# Altium integrated library Transistor.IntLib: 3457 symbols (part 31 of 78)
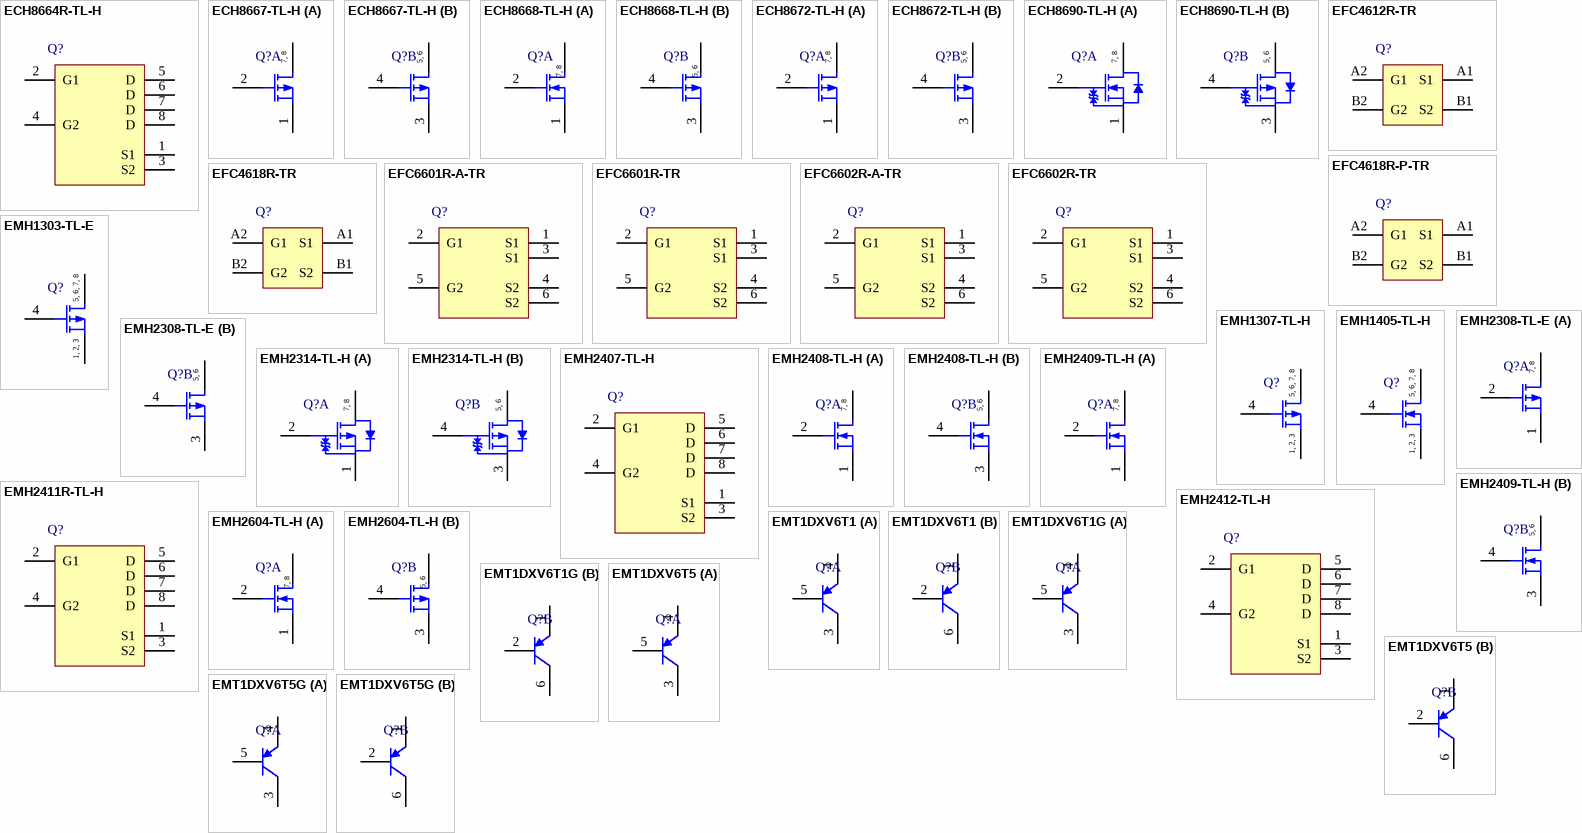
[diagram p124: symbols ECH8664R-TL-H to EMT1DXV6T5G]

## EFC6602R-TR
designator Q?
N-Channel Power MOSFET, 12 V, 18 A, 5.9 mOhm, 6-Pin EFCP, Pb-Free, Tape and Reel; Manufacturer: On Semiconductor; PartNumber: EFC6602R-TR; Channel Polarity: N Channel; Configuration: Dual; VGS Max (V): 12; VGS(th) Max (V): 1.3; PackageVersion: Rev. O, 05/2012; PackageReference: EFCP2718-6CE-020-6-567FK; PackageDescription: 6-Ball Wafer Level Chip Scale Package, Body 2.7 x 1.81 mm, Pitch 0.65 mm; Supplier 1: Newark; Supplier Part Number 1: 45W8151; Supplier 2: Mouser; Supplier Part Number 2: 863-EFC6602R-TR; Package Type: WLCSP-6; Packing: Tape and Reel; RoHS: Pb-Free; Mounting Technology: Surface Mount; ComponentLink1Description: Manufacturer URL; ComponentLink1URL: http://www.onsemi.com/; ComponentLink2Description: Datasheet; ComponentLink2URL: http://www.onsemi.com/pub_link/Collateral/ENA2152-D.PDF; ComponentLink3Description: Package Specification; ComponentLink3URL: http://www.onsemi.com/pub_link/Collateral/ENA2152-D.PDF
footprint ONSC-EFCP2718-6CE-020-6-567FK (BGA, 6-Balls, Body 2.7x1.81mm, Pitch 0.65mm)
pins: 1 S1, 2 G1, 3 S1, 4 S2, 5 G2, 6 S2

## EMH1303-TL-E
designator Q?
P-Channel Power MOSFET, -12 V, -7 A, 23 mOhm, 8-Pin EMH, Pb-Free, Tape and Reel; Manufacturer: On Semiconductor; PartNumber: EMH1303-TL-E; Channel Polarity: P Channel; Ciss Typ (pF): 1100; Configuration: Single; Coss Typ (pF): 350; Crss Typ (pF): 265; ID Max (A): 7; PD Max (W): 1.5; V(BR)DSS Min (V): 12; VGS Max (V): 10; VGS(th) Max (V): 1.2; PackageReference: EMH-8; PackageDescription: 8-Pin SOT23, Body 2 x 1.7 mm, Pitch 0.5 mm; Supplier 1: Digi-Key; Supplier Part Number 1: EMH1303-TL-E-ND; Supplier 2: Mouser; Supplier Part Number 2: 863-EMH1303-TL-E; Package Type: SOT-383FL / EMH-8; Packing: Tape and Reel; RoHS: Pb-Free; Mounting Technology: Surface Mount; ComponentLink1Description: Manufacturer URL; ComponentLink1URL: http://www.onsemi.com/; ComponentLink2Description: Datasheet; ComponentLink2URL: http://www.onsemi.com/pub_link/Collateral/EMH1303-D.PDF; ComponentLink3Description: Package Specification; ComponentLink3URL: http://www.onsemi.com/pub_link/Collateral/EMH1303-D.PDF
footprint ONSC-EMH-8_V (SOT23, 8-Leads, Body 2x1.7mm, Pitch 0.5mm)
pins: 1 S, 2 S, 3 S, 4 G, 5 D, 6 D, 7 D, 8 D
text: 5, 6, 7, 8; 1, 2, 3

## EMH1307-TL-H
designator Q?
P-Channel Power MOSFET, -20 V, -6.5 A, 26 mOhm, 8-Pin EMH, Pb-Free, Tape and Reel; Manufacturer: On Semiconductor; PartNumber: EMH1307-TL-H; Channel Polarity: P Channel; Ciss Typ (pF): 1100; Configuration: Single; Coss Typ (pF): 210; Crss Typ (pF): 160; ID Max (A): 6.5; PD Max (W): 1.5; V(BR)DSS Min (V): 20; VGS Max (V): 10; VGS(th) Max (V): 1.3; PackageReference: EMH-8; PackageDescription: 8-Pin SOT23, Body 2 x 1.7 mm, Pitch 0.5 mm; Supplier 1: Digi-Key; Supplier Part Number 1: EMH1307-TL-H-ND; Supplier 2: Mouser; Supplier Part Number 2: 863-EMH1307-TL-H; Package Type: SOT-383FL / EMH-8; Packing: Tape and Reel; RoHS: Pb-Free; Mounting Technology: Surface Mount; ComponentLink1Description: Manufacturer URL; ComponentLink1URL: http://www.onsemi.com/; ComponentLink2Description: Datasheet; ComponentLink2URL: http://www.onsemi.com/pub_link/Collateral/EMH1307-D.PDF; ComponentLink3Description: Package Specification; ComponentLink3URL: http://www.onsemi.com/pub_link/Collateral/EMH1303-D.PDF
footprint ONSC-EMH-8_V (SOT23, 8-Leads, Body 2x1.7mm, Pitch 0.5mm)
pins: 1 S, 2 S, 3 S, 4 G, 5 D, 6 D, 7 D, 8 D
text: 5, 6, 7, 8; 1, 2, 3

## EMH1405-TL-H
designator Q?
N-Channel Power MOSFET, 30 V, 8.5 A, 19 mOhm, 8-Pin EMH, Pb-Free, Tape and Reel; Manufacturer: On Semiconductor; PartNumber: EMH1405-TL-H; Channel Polarity: N Channel; Ciss Typ (pF): 820; Configuration: Single; Coss Typ (pF): 130; Crss Typ (pF): 90; ID Max (A): 8.5; PD Max (W): 1.5; V(BR)DSS Min (V): 30; VGS Max (V): 20; VGS(th) Max (V): 2.6; PackageReference: EMH-8; PackageDescription: 8-Pin SOT23, Body 2 x 1.7 mm, Pitch 0.5 mm; Supplier 1: Digi-Key; Supplier Part Number 1: EMH1405-TL-H-ND; Supplier 2: Mouser; Supplier Part Number 2: 863-EMH1405-TL-H; Package Type: SOT-383FL / EMH-8; Packing: Tape and Reel; RoHS: Pb-Free; Mounting Technology: Surface Mount; ComponentLink1Description: Manufacturer URL; ComponentLink1URL: http://www.onsemi.com/; ComponentLink2Description: Datasheet; ComponentLink2URL: http://www.onsemi.com/pub_link/Collateral/EMH1405-D.PDF; ComponentLink3Description: Package Specification; ComponentLink3URL: http://www.onsemi.com/pub_link/Collateral/EMH1303-D.PDF
footprint ONSC-EMH-8_V (SOT23, 8-Leads, Body 2x1.7mm, Pitch 0.5mm)
pins: 1 S, 2 S, 3 S, 4 G, 5 D, 6 D, 7 D, 8 D
text: 5, 6, 7, 8; 1, 2, 3

## EMH2308-TL-E
designator Q?
P-Channel Power MOSFET, -20 V, -3 A, 85 mOhm, 8-Pin EMH, Pb-Free, Tape and Reel; Manufacturer: On Semiconductor; PartNumber: EMH2308-TL-E; Channel Polarity: P Channel; Ciss Typ (pF): 320; Configuration: Dual; Coss Typ (pF): 66; Crss Typ (pF): 50; ID Max (A): 3; PD Max (W): 1; V(BR)DSS Min (V): 20; VGS Max (V): 10; VGS(th) Max (V): 1.3; PackageReference: EMH-8; PackageDescription: 8-Pin SOT23, Body 2 x 1.7 mm, Pitch 0.5 mm; Supplier 1: Digi-Key; Supplier Part Number 1: EMH2308-TL-E-ND; Supplier 2: Mouser; Supplier Part Number 2: 863-EMH2308-TL-E; Package Type: SOT-383FL / EMH-8; Packing: Tape and Reel; RoHS: Pb-Free; Mounting Technology: Surface Mount; ComponentLink1Description: Manufacturer URL; ComponentLink1URL: http://www.onsemi.com/; ComponentLink2Description: Datasheet; ComponentLink2URL: http://www.onsemi.com/pub_link/Collateral/EMH2308-D.PDF; ComponentLink3Description: Package Specification; ComponentLink3URL: http://www.onsemi.com/pub_link/Collateral/EMH1303-D.PDF
footprint ONSC-EMH-8_V (SOT23, 8-Leads, Body 2x1.7mm, Pitch 0.5mm)
part A pins: 1 S1, 2 G1, 7 D1, 8 D1
part B pins: 3 S2, 4 G2, 5 D2, 6 D2
part A text: 7, 8
part B text: 5, 6

## EMH2314-TL-H
designator Q?
P-Channel Power MOSFET, -12 V, -5 A, 37 mOhm, 8-Pin EMH, Pb-Free, Tape and Reel; Manufacturer: On Semiconductor; PartNumber: EMH2314-TL-H; Channel Polarity: P Channel; Ciss Typ (pF): 1300; Configuration: Dual; Coss Typ (pF): 158; Crss Typ (pF): 143; ID Max (A): 5; PD Max (W): 1; V(BR)DSS Min (V): 12; VGS Max (V): 10; VGS(th) Max (V): 1.3; PackageReference: EMH-8; PackageDescription: 8-Pin SOT23, Body 2 x 1.7 mm, Pitch 0.5 mm; Supplier 1: Digi-Key; Supplier Part Number 1: EMH2314-TL-H-ND; Supplier 2: Mouser; Supplier Part Number 2: 863-EMH2314-TL-H; Package Type: SOT-383FL / EMH-8; Packing: Tape and Reel; RoHS: Pb-Free; Mounting Technology: Surface Mount; ComponentLink1Description: Manufacturer URL; ComponentLink1URL: http://www.onsemi.com/; ComponentLink2Description: Datasheet; ComponentLink2URL: http://www.onsemi.com/pub_link/Collateral/EN8759-D.PDF; ComponentLink3Description: Package Specification; ComponentLink3URL: http://www.onsemi.com/pub_link/Collateral/EMH1303-D.PDF
footprint ONSC-EMH-8_V (SOT23, 8-Leads, Body 2x1.7mm, Pitch 0.5mm)
part A pins: 1 S1, 2 G1, 7 D1, 8 D1
part B pins: 3 S2, 4 G2, 5 D2, 6 D2
part A text: 7, 8
part B text: 5, 6

## EMH2407-TL-H
designator Q?
N-Channel Power MOSFET, 20 V, 6 A, 25 mOhm, 8-Pin EMH, Pb-Free, Tape and Reel; Manufacturer: On Semiconductor; PartNumber: EMH2407-TL-H; Channel Polarity: N Channel; Ciss Typ (pF): 580; Configuration: Dual; Coss Typ (pF): 95; Crss Typ (pF): 75; ID Max (A): 6; PD Max (W): 1.3; V(BR)DSS Min (V): 20; VGS Max (V): 12; PackageReference: EMH-8; PackageDescription: 8-Pin SOT23, Body 2 x 1.7 mm, Pitch 0.5 mm; Supplier 1: Digi-Key; Supplier Part Number 1: EMH2407-TL-H-ND; Supplier 2: Mouser; Supplier Part Number 2: 863-EMH2407-TL-H; Package Type: SOT-383FL / EMH-8; Packing: Tape and Reel; RoHS: Pb-Free; VGS(th) Max (V): 1.3; Mounting Technology: Surface Mount; ComponentLink1Description: Manufacturer URL; ComponentLink1URL: http://www.onsemi.com/; ComponentLink2Description: Datasheet; ComponentLink2URL: http://www.onsemi.com/pub_link/Collateral/ENA1141-D.PDF; ComponentLink3Description: Package Specification; ComponentLink3URL: http://www.onsemi.com/pub_link/Collateral/EMH1303-D.PDF
footprint ONSC-EMH-8_V (SOT23, 8-Leads, Body 2x1.7mm, Pitch 0.5mm)
pins: 1 S1, 2 G1, 3 S2, 4 G2, 5 D, 6 D, 7 D, 8 D

## EMH2408-TL-H
designator Q?
N-Channel Power MOSFET, 20 V, 4 A, 45 mOhm, 8-Pin EMH, Pb-Free, Tape and Reel; Manufacturer: On Semiconductor; PartNumber: EMH2408-TL-H; Channel Polarity: N Channel; Ciss Typ (pF): 345; Configuration: Dual; Coss Typ (pF): 67; Crss Typ (pF): 52; ID Max (A): 4; PD Max (W): 1; V(BR)DSS Min (V): 20; VGS Max (V): 12; VGS(th) Max (V): 1.3; PackageReference: EMH-8; PackageDescription: 8-Pin SOT23, Body 2 x 1.7 mm, Pitch 0.5 mm; Supplier 1: Digi-Key; Supplier Part Number 1: EMH2408-TL-H-ND; Supplier 2: Mouser; Supplier Part Number 2: 863-EMH2408-TL-H; Package Type: SOT-383FL / EMH-8; Packing: Tape and Reel; RoHS: Pb-Free; Mounting Technology: Surface Mount; ComponentLink1Description: Manufacturer URL; ComponentLink1URL: http://www.onsemi.com/; ComponentLink2Description: Datasheet; ComponentLink2URL: http://www.onsemi.com/pub_link/Collateral/EMH2408-D.PDF; ComponentLink3Description: Package Specification; ComponentLink3URL: http://www.onsemi.com/pub_link/Collateral/EMH1303-D.PDF
footprint ONSC-EMH-8_V (SOT23, 8-Leads, Body 2x1.7mm, Pitch 0.5mm)
part A pins: 1 S1, 2 G1, 7 D1, 8 D1
part B pins: 3 S2, 4 G2, 5 D2, 6 D2
part A text: 7, 8
part B text: 5, 6

## EMH2409-TL-H
designator Q?
N-Channel Power MOSFET, 30 V, 4 A, 59 mOhm, 8-Pin EMH, Pb-Free, Tape and Reel; Manufacturer: On Semiconductor; PartNumber: EMH2409-TL-H; Channel Polarity: N Channel; Ciss Typ (pF): 240; Configuration: Dual; Coss Typ (pF): 45; Crss Typ (pF): 30; ID Max (A): 4; PD Max (W): 1; VGS Max (V): 20; VGS(th) Max (V): 2.6; PackageReference: EMH-8; PackageDescription: 8-Pin SOT23, Body 2 x 1.7 mm, Pitch 0.5 mm; Supplier 1: Digi-Key; Supplier Part Number 1: EMH2409-TL-H-ND; Supplier 2: Mouser; Supplier Part Number 2: 863-EMH2409-TL-H; Package Type: SOT-383FL / EMH-8; Packing: Tape and Reel; RoHS: Pb-Free; V(BR)DSS Min (V): 30; Mounting Technology: Surface Mount; ComponentLink1Description: Manufacturer URL; ComponentLink1URL: http://www.onsemi.com/; ComponentLink2Description: Datasheet; ComponentLink2URL: http://www.onsemi.com/pub_link/Collateral/EMH2409-D.PDF; ComponentLink3Description: Package Specification; ComponentLink3URL: http://www.onsemi.com/pub_link/Collateral/EMH1303-D.PDF
footprint ONSC-EMH-8_V (SOT23, 8-Leads, Body 2x1.7mm, Pitch 0.5mm)
part A pins: 1 S1, 2 G1, 7 D1, 8 D1
part B pins: 3 S2, 4 G2, 5 D2, 6 D2
part A text: 7, 8
part B text: 5, 6

## EMH2411R-TL-H
designator Q?
N-Channel Power MOSFET, 30 V, 5 A, 36.5 Ohm, 8-Pin EMH, Pb-Free, Tape and Reel; Manufacturer: On Semiconductor; PartNumber: EMH2411R-TL-H; Channel Polarity: N Channel; Configuration: Dual; ID Max (A): 5; PD Max (W): 1.3; V(BR)DSS Min (V): 30; VGS Max (V): 12; PackageReference: EMH-8; PackageDescription: 8-Pin SOT23, Body 2 x 1.7 mm, Pitch 0.5 mm; Supplier 1: Digi-Key; Supplier Part Number 1: EMH2411R-TL-H-ND; Supplier 2: Mouser; Supplier Part Number 2: 863-EMH2411R-TL-H; Package Type: SOT-383FL / EMH-8; Packing: Tape and Reel; RoHS: Pb-Free; VGS(th) Max (V): 1.3; Mounting Technology: Surface Mount; ComponentLink1Description: Manufacturer URL; ComponentLink1URL: http://www.onsemi.com/; ComponentLink2Description: Datasheet; ComponentLink2URL: http://www.onsemi.com/pub_link/Collateral/ENA1421-D.PDF; ComponentLink3Description: Package Specification; ComponentLink3URL: http://www.onsemi.com/pub_link/Collateral/EMH1303-D.PDF
footprint ONSC-EMH-8_V (SOT23, 8-Leads, Body 2x1.7mm, Pitch 0.5mm)
pins: 1 S1, 2 G1, 3 S2, 4 G2, 5 D, 6 D, 7 D, 8 D

## EMH2412-TL-H
designator Q?
N-Channel Power MOSFET, 24 V, 6 A, 27 mOhm, 8-Pin EMH, Pb-Free, Tape and Reel; Manufacturer: On Semiconductor; PartNumber: EMH2412-TL-H; Channel Polarity: N Channel; Configuration: Dual; ID Max (A): 6; PD Max (W): 1.3; V(BR)DSS Min (V): 24; VGS Max (V): 12; PackageReference: EMH-8; PackageDescription: 8-Pin SOT23, Body 2 x 1.7 mm, Pitch 0.5 mm; Supplier 1: Digi-Key; Supplier Part Number 1: EMH2412-TL-H-ND; Supplier 2: Mouser; Supplier Part Number 2: 863-EMH2412-TL-H; Package Type: SOT-383FL / EMH-8; Packing: Tape and Reel; RoHS: Pb-Free; VGS(th) Max (V): 1.3; Mounting Technology: Surface Mount; ComponentLink1Description: Manufacturer URL; ComponentLink1URL: http://www.onsemi.com/; ComponentLink2Description: Datasheet; ComponentLink2URL: http://www.onsemi.com/pub_link/Collateral/EMH2412-D.PDF; ComponentLink3Description: Package Specification; ComponentLink3URL: http://www.onsemi.com/pub_link/Collateral/EMH1303-D.PDF
footprint ONSC-EMH-8_V (SOT23, 8-Leads, Body 2x1.7mm, Pitch 0.5mm)
pins: 1 S1, 2 G1, 3 S2, 4 G2, 5 D, 6 D, 7 D, 8 D

## EMH2604-TL-H
designator Q?
Power MOSFET, 20 V, 4 A, 45 mOhm, -20 V, -3 A, 85 mOhm, 8-Pin EMH, Pb-Free, Tape and Reel; Manufacturer: On Semiconductor; PartNumber: EMH2604-TL-H; Channel Polarity: Complementary; Configuration: Dual; PD Max (W): 1; V(BR)DSS Min (V): 20; VGS Max (V): 10; VGS(th) Max (V): 1.3; PackageReference: EMH-8; PackageDescription: 8-Pin SOT23, Body 2 x 1.7 mm, Pitch 0.5 mm; Supplier 1: Digi-Key; Supplier Part Number 1: EMH2604-TL-H-ND; Supplier 2: Mouser; Supplier Part Number 2: 863-EMH2604-TL-H; Package Type: SOT-383FL / EMH-8; Packing: Tape and Reel; RoHS: Pb-Free; Mounting Technology: Surface Mount; ComponentLink1Description: Manufacturer URL; ComponentLink1URL: http://www.onsemi.com/; ComponentLink2Description: Datasheet; ComponentLink2URL: http://www.onsemi.com/pub_link/Collateral/EMH2604-D.PDF; ComponentLink3Description: Package Specification; ComponentLink3URL: http://www.onsemi.com/pub_link/Collateral/EMH1303-D.PDF
footprint ONSC-EMH-8_V (SOT23, 8-Leads, Body 2x1.7mm, Pitch 0.5mm)
part A pins: 1 S1, 2 G1, 7 D1, 8 D1
part B pins: 3 S2, 4 G2, 5 D2, 6 D2
part A text: 7, 8
part B text: 5, 6

## EMT1DXV6T1
designator Q?
Dual General Purpose Transistors, PNP, 6-Pin SOT-563, Pb-Free, Tape and Reel; Manufacturer: On Semiconductor; PartNumber: EMT1DXV6T1; IC Continuous (A): -0.1; Polarity: Dual PNP; DatasheetVersion: Rev. 1; PackageVersion: Rev. F, 04/2005; PackageReference: SOT-563-6-463A-01; PackageDescription: 6-Pin Small Outline Transistor, Body 1.6 x 1.2 mm, Pitch 0.5 mm; Supplier 1: Digi-Key; Supplier Part Number 1: EMT1DXV6T1-ND; Supplier 2: Mouser; Supplier Part Number 2: 863-EMT1DXV6T1; Packing: Tape and Reel; RoHS: TRUE; Mounting Technology: Surface Mount; ComponentLink1Description: Manufacturer URL; ComponentLink1URL: http://www.onsemi.com/; ComponentLink2Description: Datasheet; ComponentLink2URL: http://www.onsemi.com/pub_link/Collateral/EMT1DXV6T1-D.PDF; ComponentLink3Description: Package Specification; ComponentLink3URL: http://www.onsemi.cn/pub_link/Collateral/463A-01.PDF
footprint ONSC-SOT-563-6-463A-01_V (SOT23, 6-Leads, Body 1.6x1.2mm, Pitch 0.5mm)
part A pins: 3 C, 4 E, 5 B
part B pins: 1 E, 2 B, 6 C

## EMT1DXV6T1G
designator Q?
Dual General Purpose Transistors, PNP, 6-Pin SOT-563, Pb-Free, Tape and Reel; Manufacturer: On Semiconductor; PartNumber: EMT1DXV6T1G; IC Continuous (A): -0.1; Polarity: Dual PNP; DatasheetVersion: Rev. 1; PackageVersion: Rev. F, 04/2005; PackageReference: SOT-563-6-463A-01; PackageDescription: 6-Pin Small Outline Transistor, Body 1.6 x 1.2 mm, Pitch 0.5 mm; Supplier 1: Digi-Key; Supplier Part Number 1: EMT1DXV6T1G-ND; Supplier 2: Newark; Supplier Part Number 2: 41K9774; Supplier 3: Mouser; Supplier Part Number 3: 863-EMT1DXV6T1G; Packing: Tape and Reel; RoHS: TRUE; Mounting Technology: Surface Mount; ComponentLink1Description: Manufacturer URL; ComponentLink1URL: http://www.onsemi.com/; ComponentLink2Description: Datasheet; ComponentLink2URL: http://www.onsemi.com/pub_link/Collateral/EMT1DXV6T1-D.PDF; ComponentLink3Description: Package Specification; ComponentLink3URL: http://www.onsemi.cn/pub_link/Collateral/463A-01.PDF
footprint ONSC-SOT-563-6-463A-01_V (SOT23, 6-Leads, Body 1.6x1.2mm, Pitch 0.5mm)
part A pins: 3 C, 4 E, 5 B
part B pins: 1 E, 2 B, 6 C

## EMT1DXV6T5
designator Q?
Dual General Purpose Transistors, PNP, 6-Pin SOT-563, Pb-Free, Tape and Reel; Manufacturer: On Semiconductor; PartNumber: EMT1DXV6T5; IC Continuous (A): -0.1; Polarity: Dual PNP; DatasheetVersion: Rev. 1; PackageVersion: Rev. F, 04/2005; PackageReference: SOT-563-6-463A-01; PackageDescription: 6-Pin Small Outline Transistor, Body 1.6 x 1.2 mm, Pitch 0.5 mm; Supplier 1: Digi-Key; Supplier Part Number 1: EMT1DXV6T5-ND; Supplier 2: Mouser; Supplier Part Number 2: 863-EMT1DXV6T5; Packing: Tape and Reel; RoHS: TRUE; Mounting Technology: Surface Mount; ComponentLink1Description: Manufacturer URL; ComponentLink1URL: http://www.onsemi.com/; ComponentLink2Description: Datasheet; ComponentLink2URL: http://www.onsemi.com/pub_link/Collateral/EMT1DXV6T1-D.PDF; ComponentLink3Description: Package Specification; ComponentLink3URL: http://www.onsemi.cn/pub_link/Collateral/463A-01.PDF
footprint ONSC-SOT-563-6-463A-01_V (SOT23, 6-Leads, Body 1.6x1.2mm, Pitch 0.5mm)
part A pins: 3 C, 4 E, 5 B
part B pins: 1 E, 2 B, 6 C

## EMT1DXV6T5G
designator Q?
Dual General Purpose Transistors, PNP, 6-Pin SOT-563, Pb-Free, Tape and Reel; Manufacturer: On Semiconductor; PartNumber: EMT1DXV6T5G; IC Continuous (A): -0.1; Polarity: Dual PNP; DatasheetVersion: Rev. 1; PackageVersion: Rev. F, 04/2005; PackageReference: SOT-563-6-463A-01; PackageDescription: 6-Pin Small Outline Transistor, Body 1.6 x 1.2 mm, Pitch 0.5 mm; Supplier 1: Digi-Key; Supplier Part Number 1: EMT1DXV6T5G-ND; Supplier 2: Mouser; Supplier Part Number 2: 863-EMT1DXV6T5G; Packing: Tape and Reel; RoHS: TRUE; Mounting Technology: Surface Mount; ComponentLink1Description: Manufacturer URL; ComponentLink1URL: http://www.onsemi.com/; ComponentLink2Description: Datasheet; ComponentLink2URL: http://www.onsemi.com/pub_link/Collateral/EMT1DXV6T1-D.PDF; ComponentLink3Description: Package Specification; ComponentLink3URL: http://www.onsemi.cn/pub_link/Collateral/463A-01.PDF
footprint ONSC-SOT-563-6-463A-01_V (SOT23, 6-Leads, Body 1.6x1.2mm, Pitch 0.5mm)
part A pins: 3 C, 4 E, 5 B
part B pins: 1 E, 2 B, 6 C

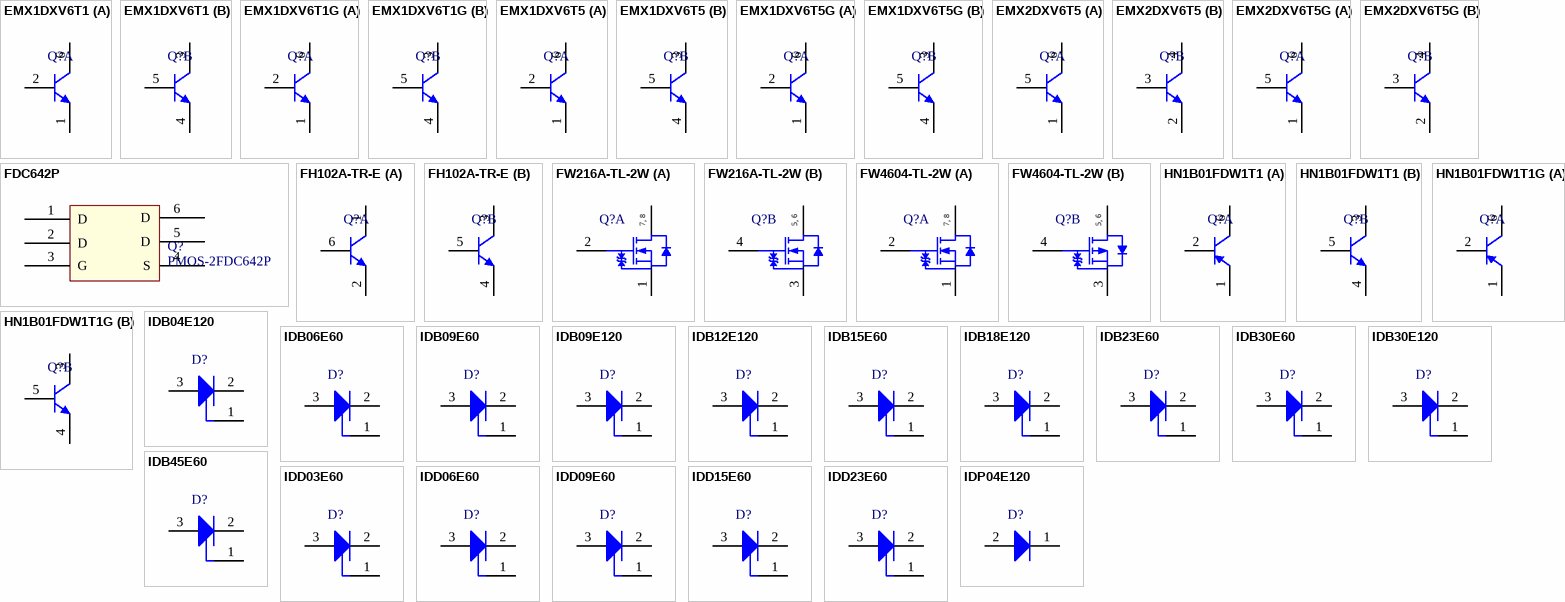
[diagram p36: symbols EMX1DXV6T1 to IDP04E120]

## EMX1DXV6T1
designator Q?
Dual NPN General Purpose Amplifier Transistors, 6-Pin SOT-563, Pb-Free, Tape and Reel; Manufacturer: On Semiconductor; PartNumber: EMX1DXV6T1; IC Continuous (A): 0.1; DatasheetVersion: Rev. 1; PackageVersion: Rev. F, 04/2005; PackageReference: SOT-563-6-463A-01; PackageDescription: 6-Pin Small Outline Transistor, Body 1.6 x 1.2 mm, Pitch 0.5 mm; Supplier 1: Digi-Key; Supplier Part Number 1: EMX1DXV6T1-ND; Supplier 2: Mouser; Supplier Part Number 2: 863-EMX1DXV6T1; Packing: Tape and Reel; Polarity: Dual NPN; RoHS: TRUE; Mounting Technology: Surface Mount; ComponentLink1Description: Manufacturer URL; ComponentLink1URL: http://www.onsemi.com/; ComponentLink2Description: Datasheet; ComponentLink2URL: http://www.onsemi.com/pub_link/Collateral/EMX1DXV6T1-D.PDF; ComponentLink3Description: Package Specification; ComponentLink3URL: http://www.onsemi.cn/pub_link/Collateral/463A-01.PDF
footprint ONSC-SOT-563-6-463A-01_V (SOT23, 6-Leads, Body 1.6x1.2mm, Pitch 0.5mm)
part A pins: 1 E, 2 B, 6 C
part B pins: 3 C, 4 E, 5 B

## EMX1DXV6T1G
designator Q?
Dual NPN General Purpose Amplifier Transistors, 6-Pin SOT-563, Pb-Free, Tape and Reel; Manufacturer: On Semiconductor; PartNumber: EMX1DXV6T1G; IC Continuous (A): 0.1; DatasheetVersion: Rev. 1; PackageVersion: Rev. F, 04/2005; PackageReference: SOT-563-6-463A-01; PackageDescription: 6-Pin Small Outline Transistor, Body 1.6 x 1.2 mm, Pitch 0.5 mm; Supplier 1: Digi-Key; Supplier Part Number 1: EMX1DXV6T1G-ND; Supplier 2: Mouser; Supplier Part Number 2: 863-EMX1DXV6T1G; Packing: Tape and Reel; Polarity: Dual NPN; RoHS: TRUE; Mounting Technology: Surface Mount; ComponentLink1Description: Manufacturer URL; ComponentLink1URL: http://www.onsemi.com/; ComponentLink2Description: Datasheet; ComponentLink2URL: http://www.onsemi.com/pub_link/Collateral/EMX1DXV6T1-D.PDF; ComponentLink3Description: Package Specification; ComponentLink3URL: http://www.onsemi.cn/pub_link/Collateral/463A-01.PDF
footprint ONSC-SOT-563-6-463A-01_V (SOT23, 6-Leads, Body 1.6x1.2mm, Pitch 0.5mm)
part A pins: 1 E, 2 B, 6 C
part B pins: 3 C, 4 E, 5 B

## EMX1DXV6T5
designator Q?
Dual NPN General Purpose Amplifier Transistors, 6-Pin SOT-563, Pb-Free, Tape and Reel; Manufacturer: On Semiconductor; PartNumber: EMX1DXV6T5; IC Continuous (A): 0.1; DatasheetVersion: Rev. 1; PackageVersion: Rev. F, 04/2005; PackageReference: SOT-563-6-463A-01; PackageDescription: 6-Pin Small Outline Transistor, Body 1.6 x 1.2 mm, Pitch 0.5 mm; Supplier 1: Mouser; Supplier Part Number 1: 863-EMX1DXV6T5; Packing: Tape and Reel; Polarity: Dual NPN; RoHS: TRUE; Mounting Technology: Surface Mount; ComponentLink1Description: Manufacturer URL; ComponentLink1URL: http://www.onsemi.com/; ComponentLink2Description: Datasheet; ComponentLink2URL: http://www.onsemi.com/pub_link/Collateral/EMX1DXV6T1-D.PDF; ComponentLink3Description: Package Specification; ComponentLink3URL: http://www.onsemi.cn/pub_link/Collateral/463A-01.PDF
footprint ONSC-SOT-563-6-463A-01_V (SOT23, 6-Leads, Body 1.6x1.2mm, Pitch 0.5mm)
part A pins: 1 E, 2 B, 6 C
part B pins: 3 C, 4 E, 5 B

## EMX1DXV6T5G
designator Q?
Dual NPN General Purpose Amplifier Transistors, 6-Pin SOT-563, Pb-Free, Tape and Reel; Manufacturer: On Semiconductor; PartNumber: EMX1DXV6T5G; IC Continuous (A): 0.1; DatasheetVersion: Rev. 1; PackageVersion: Rev. F, 04/2005; PackageReference: SOT-563-6-463A-01; PackageDescription: 6-Pin Small Outline Transistor, Body 1.6 x 1.2 mm, Pitch 0.5 mm; Supplier 1: Digi-Key; Supplier Part Number 1: EMX1DXV6T5G-ND; Supplier 2: Mouser; Supplier Part Number 2: 863-EMX1DXV6T5G; Packing: Tape and Reel; Polarity: Dual NPN; RoHS: TRUE; Mounting Technology: Surface Mount; ComponentLink1Description: Manufacturer URL; ComponentLink1URL: http://www.onsemi.com/; ComponentLink2Description: Datasheet; ComponentLink2URL: http://www.onsemi.com/pub_link/Collateral/EMX1DXV6T1-D.PDF; ComponentLink3Description: Package Specification; ComponentLink3URL: http://www.onsemi.cn/pub_link/Collateral/463A-01.PDF
footprint ONSC-SOT-563-6-463A-01_V (SOT23, 6-Leads, Body 1.6x1.2mm, Pitch 0.5mm)
part A pins: 1 E, 2 B, 6 C
part B pins: 3 C, 4 E, 5 B

## EMX2DXV6T5
designator Q?
Dual NPN General Purpose Amplifier Transistors, 6-Pin SOT-563, Pb-Free, Tape and Reel; Manufacturer: On Semiconductor; PartNumber: EMX2DXV6T5; IC Continuous (A): 0.1; DatasheetVersion: Rev. 2; PackageVersion: Rev. F, 04/2005; PackageReference: SOT-563-6-463A-01; PackageDescription: 6-Pin Small Outline Transistor, Body 1.6 x 1.2 mm, Pitch 0.5 mm; Supplier 1: Digi-Key; Supplier Part Number 1: EMX2DXV6T5-ND; Supplier 2: Mouser; Supplier Part Number 2: 863-EMX2DXV6T5; Packing: Tape and Reel; Polarity: Dual NPN; RoHS: TRUE; Mounting Technology: Surface Mount; ComponentLink1Description: Manufacturer URL; ComponentLink1URL: http://www.onsemi.com/; ComponentLink2Description: Datasheet; ComponentLink2URL: http://www.onsemi.com/pub_link/Collateral/EMX2DXV6T5-D.PDF; ComponentLink3Description: Package Specification; ComponentLink3URL: http://www.onsemi.cn/pub_link/Collateral/463A-01.PDF
footprint ONSC-SOT-563-6-463A-01_V (SOT23, 6-Leads, Body 1.6x1.2mm, Pitch 0.5mm)
part A pins: 1 E, 5 B, 6 C
part B pins: 2 E, 3 B, 4 C

## EMX2DXV6T5G
designator Q?
Dual NPN General Purpose Amplifier Transistors, 6-Pin SOT-563, Pb-Free, Tape and Reel; Manufacturer: On Semiconductor; PartNumber: EMX2DXV6T5G; IC Continuous (A): 0.1; DatasheetVersion: Rev. 2; PackageVersion: Rev. F, 04/2005; PackageReference: SOT-563-6-463A-01; PackageDescription: 6-Pin Small Outline Transistor, Body 1.6 x 1.2 mm, Pitch 0.5 mm; Supplier 1: Digi-Key; Supplier Part Number 1: EMX2DXV6T5G-ND; Supplier 2: Mouser; Supplier Part Number 2: 863-EMX2DXV6T5G; Packing: Tape and Reel; Polarity: Dual NPN; RoHS: TRUE; Mounting Technology: Surface Mount; ComponentLink1Description: Manufacturer URL; ComponentLink1URL: http://www.onsemi.com/; ComponentLink2Description: Datasheet; ComponentLink2URL: http://www.onsemi.com/pub_link/Collateral/EMX2DXV6T5-D.PDF; ComponentLink3Description: Package Specification; ComponentLink3URL: http://www.onsemi.cn/pub_link/Collateral/463A-01.PDF
footprint ONSC-SOT-563-6-463A-01_V (SOT23, 6-Leads, Body 1.6x1.2mm, Pitch 0.5mm)
part A pins: 1 E, 5 B, 6 C
part B pins: 2 E, 3 B, 4 C

## FDC642P
designator Q?, comment PMOS-2FDC642P
P-Channel Power MOSFET; Note: Pin 4 not drawn and electrically connected to Pin 2.; Published: 8-Jun-2000; LatestRevisionDate: 17-Jul-2002; LatestRevisionNote: Re-released for DXP Platform.; DatasheetVersion: PD-9.390D; PackageVersion: Feb-1997; PackageReference: TO-220AB; Publisher: Altium Limited; PackageDescription: TO, Thru-Hole, Vertical, Heatsink Mounted; 3 In-Line Leads; Pitch 2.54 mm; ComponentLink1Description: Manufacturer Link; ComponentLink1URL: http://www.irf.com/
footprint SOT23-6N
pins: 1 D, 2 D, 3 G, 4 S, 5 D, 6 D

## FH102A-TR-E
designator Q?
RF Transistors, 10 V, 70 mA, fT=7 GHz, NPN Dual, 6-Pin MCP, Pb-Free, Tape and Reel; Manufacturer: On Semiconductor; PartNumber: FH102A-TR-E; fT Min (MHz): 5000; IC Continuous (A): 0.07; Polarity: Dual NPN; PackageReference: MCP-6; PackageDescription: 6-Pin Small Outline Transistor, Body 2 x 1.25 mm, Pitch 0.65 mm; Supplier 1: Digi-Key; Supplier Part Number 1: FH102A-TR-E-ND; Supplier 2: Mouser; Supplier Part Number 2: 863-FH102A-TR-E; Packing: Tape and Reel; RoHS: TRUE; Mounting Technology: Surface Mount; ComponentLink1Description: Manufacturer URL; ComponentLink1URL: http://www.onsemi.com/; ComponentLink2Description: Datasheet; ComponentLink2URL: http://www.onsemi.com/pub_link/Collateral/FH102A-D.PDF; ComponentLink3Description: Package Specification; ComponentLink3URL: http://www.onsemi.com/pub_link/Collateral/ENA1126-D.PDF
footprint ONSC-MCP-6_V (SOT23, 6-Leads, Body 2x1.25mm, Pitch 0.65mm)
part A pins: 1 C, 2 E, 6 B
part B pins: 3 C, 4 E, 5 B

## FW216A-TL-2W
designator Q?
N-Channel Power MOSFET, 35 V, 4.5 A, 64 mOhm, 8-Pin SOIC, Pb-Free, Tape and Reel; Manufacturer: On Semiconductor; PartNumber: FW216A-TL-2W; Channel Polarity: N Channel; Ciss Typ (pF): 280; Configuration: Dual; Coss Typ (pF): 60; Crss Typ (pF): 30; ID Max (A): 4.5; PD Max (W): 1.6; V(BR)DSS Min (V): 35; VGS Max (V): 20; VGS(th) Max (V): 2.5; PackageReference: SOIC-8-C; PackageDescription: 8-Pin Small Outline Integrated Circuit, Body 4.9 x 3.9 mm, Pitch 1.27 mm; Package Type: SOIC8-NB EP; Packing: Tape and Reel; RoHS: Pb-Free; Mounting Technology: Surface Mount; ComponentLink1Description: Manufacturer URL; ComponentLink1URL: http://www.onsemi.com/; ComponentLink2Description: Datasheet; ComponentLink2URL: http://www.onsemi.com/pub_link/Collateral/ENA0176-D.PDF; ComponentLink3Description: Package Specification; ComponentLink3URL: http://www.onsemi.com/pub_link/Collateral/ENA1067-D.PDF
footprint ONSC-SOIC-8-C_V (SOIC, 8-Leads, Body 4.9x3.9mm, Pitch 1.27mm)
part A pins: 1 S1, 2 G1, 7 D1, 8 D1
part B pins: 3 S2, 4 G2, 5 D2, 6 D2
part A text: 7, 8
part B text: 5, 6

## FW4604-TL-2W
designator Q?
N-Channel Power MOSFET, 30 V, 6 A, 39 mOhm, 8-Pin SOIC, Pb-Free, Tape and Reel; Manufacturer: On Semiconductor; PartNumber: FW4604-TL-2W; Channel Polarity: Complementary; Configuration: Dual; PD Max (W): 1.8; V(BR)DSS Min (V): 30; VGS Max (V): 20; VGS(th) Max (V): 2.6; PackageReference: SOIC-8-C; PackageDescription: 8-Pin Small Outline Integrated Circuit, Body 4.9 x 3.9 mm, Pitch 1.27 mm; Package Type: SOIC-8; Packing: Tape and Reel; RoHS: Pb-Free; Mounting Technology: Surface Mount; ComponentLink1Description: Manufacturer URL; ComponentLink1URL: http://www.onsemi.com/; ComponentLink2Description: Datasheet; ComponentLink2URL: http://www.onsemi.com/pub_link/Collateral/ENA0273-D.PDF; ComponentLink3Description: Package Specification; ComponentLink3URL: http://www.onsemi.com/pub_link/Collateral/ENA1067-D.PDF
footprint ONSC-SOIC-8-C_V (SOIC, 8-Leads, Body 4.9x3.9mm, Pitch 1.27mm)
part A pins: 1 S1, 2 G1, 7 D1, 8 D1
part B pins: 3 S2, 4 G2, 5 D2, 6 D2
part A text: 7, 8
part B text: 5, 6

## HN1B01FDW1T1
designator Q?
Complementary Dual General Purpose Amplifier Transistors, PNP and NPN Surface Mount, 6-Pin SC-74, Tape and Reel; Manufacturer: On Semiconductor; PartNumber: HN1B01FDW1T1; IC Continuous (A): 0.2; DatasheetVersion: Rev. 3; PackageVersion: Rev. N, 06/2012; PackageReference: SC-74-6-318F-05; PackageDescription: 6-Pin Small Outline Transistor, Body 3 x 1.5 mm, Pitch 0.95 mm; Supplier 1: Digi-Key; Supplier Part Number 1: HN1B01FDW1T1OS-ND; Packing: Tape and Reel; Polarity: Complementary; RoHS: FALSE; Mounting Technology: Surface Mount; ComponentLink1Description: Manufacturer URL; ComponentLink1URL: http://www.onsemi.com/; ComponentLink2Description: Datasheet; ComponentLink2URL: http://www.onsemi.com/pub_link/Collateral/HN1B01FDW1T1-D.PDF; ComponentLink3Description: Package Specification; ComponentLink3URL: http://www.onsemi.com/pub_link/Collateral/318F-05.PDF
footprint ONSC-SC-74-6-318F-05_V (SOT23, 6-Leads, Body 3x1.5mm, Pitch 0.95mm)
part A pins: 1 E, 2 B, 6 C
part B pins: 3 C, 4 E, 5 B

## HN1B01FDW1T1G
designator Q?
Complementary Dual General Purpose Amplifier Transistors, PNP and NPN Surface Mount, 6-Pin SC-74, Pb-Free, Tape and Reel; Manufacturer: On Semiconductor; PartNumber: HN1B01FDW1T1G; IC Continuous (A): 0.2; DatasheetVersion: Rev. 3; PackageVersion: Rev. N, 06/2012; PackageReference: SC-74-6-318F-05; PackageDescription: 6-Pin Small Outline Transistor, Body 3 x 1.5 mm, Pitch 0.95 mm; Supplier 1: Digi-Key; Supplier Part Number 1: HN1B01FDW1T1GOS-ND; Supplier 2: Newark; Supplier Part Number 2: 85W2283; Supplier 3: Mouser; Supplier Part Number 3: 863-HN1B01FDW1T1G; Packing: Tape and Reel; Polarity: Complementary; RoHS: TRUE; Mounting Technology: Surface Mount; ComponentLink1Description: Manufacturer URL; ComponentLink1URL: http://www.onsemi.com/; ComponentLink2Description: Datasheet; ComponentLink2URL: http://www.onsemi.com/pub_link/Collateral/HN1B01FDW1T1-D.PDF; ComponentLink3Description: Package Specification; ComponentLink3URL: http://www.onsemi.com/pub_link/Collateral/318F-05.PDF
footprint ONSC-SC-74-6-318F-05_V (SOT23, 6-Leads, Body 3x1.5mm, Pitch 0.95mm)
part A pins: 1 E, 2 B, 6 C
part B pins: 3 C, 4 E, 5 B

## IDB04E120
designator D?
Fast Switching EmCon Diode, -55 to 150 degC, PG-TO263-3-2, Reel, Green; Manufacturer: Infineon; PartNumber: IDB04E120; Green: TRUE; Ptot (max): 43.1 W; DatasheetVersion: Rev. 2.2; PackageVersion: Rev. 01, 08/2007; PackageReference: PG-TO263-3-2; PackageDescription: 3-Pin Plastic (Green) Transistor Single Outline Package, 10.1 x 8.98 mm Body, 2.54 mm Pitch; Supplier 1: Mouser; Supplier Part Number 1: 726-IDB04E120; Halogen-free: FALSE; Mounting Technology: Surface Mount; ComponentLink1Description: Manufacturer URL; ComponentLink1URL: http://www.infineon.com/; ComponentLink2Description: Datasheet; ComponentLink2URL: http://www.infineon.com/dgdl/IDB04E120_rev2_2G.pdf?folderId=db3a304412b407950112b408e8c90004&fileId=db3a304412b407950112b43708566733; ComponentLink3Description: Package Specification; ComponentLink3URL: http://www.infineon.com/dgdl/SPB80P06P+G_Rev+1.6_.pdf?folderId=db3a304412b407950112b408e8c90004&fileId=db3a304412b407950112b42add964408
footprint INF-PG-TO263-3-2_A_N (DPAK, 3-Leads, Body 10.1x8.98mm, Pitch 2.54mm, IPC Medium Density)
footprint INF-PG-TO263-3-2_A_L (DPAK, 3-Leads, Body 10.1x8.98mm, Pitch 2.54mm, IPC High Density)
footprint INF-PG-TO263-3-2_A_M (DPAK, 3-Leads, Body 10.1x8.98mm, Pitch 2.54mm, IPC Low Density)
pins: 1 NC, 2 C, 3 A

## IDB06E60
designator D?
Fast Switching EmCon Diode, -55 to 175 degC, PG-TO263-3-2, Reel, Green; Manufacturer: Infineon; PartNumber: IDB06E60; Green: TRUE; Ptot (max): 46.9 W; DatasheetVersion: Rev. 2.2; PackageVersion: Rev. 01, 08/2007; PackageReference: PG-TO263-3-2; PackageDescription: 3-Pin Plastic (Green) Transistor Single Outline Package, 10.1 x 8.98 mm Body, 2.54 mm Pitch; Supplier 1: Mouser; Supplier Part Number 1: 726-IDB06E60; Halogen-free: FALSE; Mounting Technology: Surface Mount; ComponentLink1Description: Manufacturer URL; ComponentLink1URL: http://www.infineon.com/; ComponentLink2Description: Datasheet; ComponentLink2URL: http://www.infineon.com/dgdl/IDB06E60_rev2_2G.pdf?folderId=db3a304412b407950112b438bc9d6b83&fileId=db3a304412b407950112b438bd246b84; ComponentLink3Description: Package Specification; ComponentLink3URL: http://www.infineon.com/dgdl/SPB80P06P+G_Rev+1.6_.pdf?folderId=db3a304412b407950112b408e8c90004&fileId=db3a304412b407950112b42add964408
footprint INF-PG-TO263-3-2_A_N (DPAK, 3-Leads, Body 10.1x8.98mm, Pitch 2.54mm, IPC Medium Density)
footprint INF-PG-TO263-3-2_A_L (DPAK, 3-Leads, Body 10.1x8.98mm, Pitch 2.54mm, IPC High Density)
footprint INF-PG-TO263-3-2_A_M (DPAK, 3-Leads, Body 10.1x8.98mm, Pitch 2.54mm, IPC Low Density)
pins: 1 NC, 2 C, 3 A

## IDB09E60
designator D?
Fast Switching EmCon Diode, -55 to 175 degC, PG-TO263-3-2, Reel, Green; Manufacturer: Infineon; PartNumber: IDB09E60; Green: TRUE; IF (max): 19.3 A; IF (typ): 9 A; IF,SM (max): 40 A; IR (max): 50 uA; Irrm (typ): 10.2 A; Ptot (max): 57.7 W; Qrr (typ): 343 nC; RthJC (max): 2.6 K/W; Trr (typ): 75 ns; VF (typ): 1.5 V; DatasheetVersion: Rev. 2.2; PackageVersion: Rev. 01, 08/2007; PackageReference: PG-TO263-3-2; PackageDescription: 3-Pin Plastic (Green) Transistor Single Outline Package, 10.1 x 8.98 mm Body, 2.54 mm Pitch; Supplier 1: Mouser; Supplier Part Number 1: 726-IDB09E60; Supplier 2: Digi-Key; Supplier Part Number 2: IDB09E60-ND; Halogen-free: TRUE; Packing: Reel; Mounting Technology: Surface Mount; ComponentLink1Description: Manufacturer URL; ComponentLink1URL: http://www.infineon.com/; ComponentLink2Description: Datasheet; ComponentLink2URL: http://www.infineon.com/dgdl/IDB09E60_rev2_2G.pdf?folderId=db3a304412b407950112b438c1916b8d&fileId=db3a304412b407950112b438c2196b8e; ComponentLink3Description: Package Specification; ComponentLink3URL: http://www.infineon.com/dgdl/SPB80P06P+G_Rev+1.6_.pdf?folderId=db3a304412b407950112b408e8c90004&fileId=db3a304412b407950112b42add964408
footprint INF-PG-TO263-3-2_A_N (DPAK, 3-Leads, Body 10.1x8.98mm, Pitch 2.54mm, IPC Medium Density)
footprint INF-PG-TO263-3-2_A_L (DPAK, 3-Leads, Body 10.1x8.98mm, Pitch 2.54mm, IPC High Density)
footprint INF-PG-TO263-3-2_A_M (DPAK, 3-Leads, Body 10.1x8.98mm, Pitch 2.54mm, IPC Low Density)
pins: 1 NC, 2 K, 3 A

## IDB09E120
designator D?
Fast Switching EmCon Diode, -55 to 150 degC, PG-TO263-3-2, Reel, Green; Manufacturer: Infineon; PartNumber: IDB09E120; Green: TRUE; Ptot (max): 69 W; DatasheetVersion: Rev. 2.2; PackageVersion: Rev. 01, 08/2007; PackageReference: PG-TO263-3-2; PackageDescription: 3-Pin Plastic (Green) Transistor Single Outline Package, 10.1 x 8.98 mm Body, 2.54 mm Pitch; Supplier 1: Mouser; Supplier Part Number 1: 726-IDB09E120; Halogen-free: FALSE; Mounting Technology: Surface Mount; ComponentLink1Description: Manufacturer URL; ComponentLink1URL: http://www.infineon.com/; ComponentLink2Description: Datasheet; ComponentLink2URL: http://www.infineon.com/dgdl/IDB09E120_rev2_2G.pdf?folderId=db3a304412b407950112b43716fe6750&fileId=db3a304412b407950112b437177f6751; ComponentLink3Description: Package Specification; ComponentLink3URL: http://www.infineon.com/dgdl/SPB80P06P+G_Rev+1.6_.pdf?folderId=db3a304412b407950112b408e8c90004&fileId=db3a304412b407950112b42add964408
footprint INF-PG-TO263-3-2_A_N (DPAK, 3-Leads, Body 10.1x8.98mm, Pitch 2.54mm, IPC Medium Density)
footprint INF-PG-TO263-3-2_A_L (DPAK, 3-Leads, Body 10.1x8.98mm, Pitch 2.54mm, IPC High Density)
footprint INF-PG-TO263-3-2_A_M (DPAK, 3-Leads, Body 10.1x8.98mm, Pitch 2.54mm, IPC Low Density)
pins: 1 NC, 2 C, 3 A

## IDB12E120
designator D?
Fast Switching EmCon Diode, -55 to 150 degC, PG-TO263-3, Reel, Green; Manufacturer: Infineon; PartNumber: IDB12E120; Green: TRUE; IF (max): 28 A; IF (typ): 12 A; IF,SM (max): 63 A; IR (max): 100 uA; Irrm (typ): 17 A; Ptot (max): 96 W; Qrr (typ): 1,200 nC; RthJC (max): 1.3 K/W; Trr (typ): 150 ns; VF (typ): 1.65 V; DatasheetVersion: Rev. 2.2; PackageVersion: Rev. 01, 08/2007; PackageReference: PG-TO263-3-2; PackageDescription: 3-Pin Plastic (Green) Transistor Single Outline Package, 10.1 x 8.98 mm Body, 2.54 mm Pitch; Supplier 1: Mouser; Supplier Part Number 1: 726-IDB12E120; Supplier 2: Digi-Key; Supplier Part Number 2: IDB12E120-ND; Halogen-free: TRUE; Packing: Reel; Mounting Technology: Surface Mount; ComponentLink1Description: Manufacturer URL; ComponentLink1URL: http://www.infineon.com/; ComponentLink2Description: Datasheet; ComponentLink2URL: http://www.infineon.com/dgdl/IDB12E120_rev2_2G.pdf?folderId=db3a304412b407950112b43710066741&fileId=db3a304412b407950112b43710876742; ComponentLink3Description: Package Specification; ComponentLink3URL: http://www.infineon.com/dgdl/SPB80P06P+G_Rev+1.6_.pdf?folderId=db3a304412b407950112b408e8c90004&fileId=db3a304412b407950112b42add964408
footprint INF-PG-TO263-3-2_A_N (DPAK, 3-Leads, Body 10.1x8.98mm, Pitch 2.54mm, IPC Medium Density)
footprint INF-PG-TO263-3-2_A_L (DPAK, 3-Leads, Body 10.1x8.98mm, Pitch 2.54mm, IPC High Density)
footprint INF-PG-TO263-3-2_A_M (DPAK, 3-Leads, Body 10.1x8.98mm, Pitch 2.54mm, IPC Low Density)
pins: 1 NC, 2 K, 3 A

## IDB15E60
designator D?
Fast Switching EmCon Diode, -55 to 175 degC, PG-TO263-3-2, Reel, Green; Manufacturer: Infineon; PartNumber: IDB15E60; Green: TRUE; IF (max): 29.2 A; IF (typ): 15 A; IF,SM (max): 60 A; IR (max): 50 uA; Irrm (typ): 13.7 A; Ptot (max): 83.3 W; Qrr (typ): 595 nC; RthJC (max): 1.8 K/W; Trr (typ): 87 ns; VF (typ): 1.5 V; DatasheetVersion: Rev. 2.2; PackageVersion: Rev. 01, 08/2007; PackageReference: PG-TO263-3-2; PackageDescription: 3-Pin Plastic (Green) Transistor Single Outline Package, 10.1 x 8.98 mm Body, 2.54 mm Pitch; Supplier 1: Mouser; Supplier Part Number 1: 726-IDB15E60; Supplier 2: Digi-Key; Supplier Part Number 2: IDB15E60-ND; Halogen-free: TRUE; Packing: Reel; Mounting Technology: Surface Mount; ComponentLink1Description: Manufacturer URL; ComponentLink1URL: http://www.infineon.com/; ComponentLink2Description: Datasheet; ComponentLink2URL: http://www.infineon.com/dgdl/IDB15E60_rev2_2G.pdf?folderId=db3a304412b407950112b438c7396b97&fileId=db3a304412b407950112b438c7b86b98; ComponentLink3Description: Package Specification; ComponentLink3URL: http://www.infineon.com/dgdl/SPB80P06P+G_Rev+1.6_.pdf?folderId=db3a304412b407950112b408e8c90004&fileId=db3a304412b407950112b42add964408
footprint INF-PG-TO263-3-2_A_N (DPAK, 3-Leads, Body 10.1x8.98mm, Pitch 2.54mm, IPC Medium Density)
footprint INF-PG-TO263-3-2_A_L (DPAK, 3-Leads, Body 10.1x8.98mm, Pitch 2.54mm, IPC High Density)
footprint INF-PG-TO263-3-2_A_M (DPAK, 3-Leads, Body 10.1x8.98mm, Pitch 2.54mm, IPC Low Density)
pins: 1 NC, 2 K, 3 A

## IDB18E120
designator D?
Fast Switching EmCon Diode, -55 to 150 degC, PG-TO263-3-2, Reel, Green; Manufacturer: Infineon; PartNumber: IDB18E120; IF (max): 31 A; IF (typ): 18 A; IF,SM (max): 78 A; IR (max): 100 uA; Irrm (typ): 20.2 A; Ptot (max): 113 W; Qrr (typ): 1,880 nC; RthJC (max): 1.1 K/W; Trr (typ): 195 ns; VF (typ): 1.65 V; DatasheetVersion: Rev. 2.2; PackageVersion: Rev. 01, 08/2007; PackageReference: PG-TO263-3-2; PackageDescription: 3-Pin Plastic (Green) Transistor Single Outline Package, 10.1 x 8.98 mm Body, 2.54 mm Pitch; Supplier 1: Mouser; Supplier Part Number 1: 726-IDB18E120; Supplier 2: Digi-Key; Supplier Part Number 2: IDB18E120-ND; Packing: Reel; Mounting Technology: Surface Mount; ComponentLink1Description: Manufacturer URL; ComponentLink1URL: http://www.infineon.com/; ComponentLink2Description: Datasheet; ComponentLink2URL: http://www.infineon.com/dgdl/IDB18E120_rev2_2G.pdf?folderId=db3a304412b407950112b437eb85698c&fileId=db3a304412b407950112b437ec0a698d; ComponentLink3Description: Package Specification; ComponentLink3URL: http://www.infineon.com/dgdl/SPB80P06P+G_Rev+1.6_.pdf?folderId=db3a304412b407950112b408e8c90004&fileId=db3a304412b407950112b42add964408
footprint INF-PG-TO263-3-2_A_N (DPAK, 3-Leads, Body 10.1x8.98mm, Pitch 2.54mm, IPC Medium Density)
footprint INF-PG-TO263-3-2_A_L (DPAK, 3-Leads, Body 10.1x8.98mm, Pitch 2.54mm, IPC High Density)
footprint INF-PG-TO263-3-2_A_M (DPAK, 3-Leads, Body 10.1x8.98mm, Pitch 2.54mm, IPC Low Density)
pins: 1 NC, 2 K, 3 A

## IDB23E60
designator D?
Fast Switching EmCon Diode, -55 to 175 degC, PG-TO263-3-2, Reel, Green; Manufacturer: Infineon; PartNumber: IDB23E60; Green: TRUE; IF (max): 41 A; IF (typ): 23 A; IF,SM (max): 89 A; IR (max): 50 uA; Irrm (typ): 17 A; Ptot (max): 115 W; Qrr (typ): 970 nC; RthJC (max): 1.3 K/W; Trr (typ): 120 ns; VF (typ): 1.5 V; DatasheetVersion: Rev. 2.2; PackageVersion: Rev. 01, 08/2007; PackageReference: PG-TO263-3-2; PackageDescription: 3-Pin Plastic (Green) Transistor Single Outline Package, 10.1 x 8.98 mm Body, 2.54 mm Pitch; Supplier 1: Digi-Key; Supplier Part Number 1: IDB23E60-ND; Packing: Reel; Mounting Technology: Surface Mount; ComponentLink1Description: Manufacturer URL; ComponentLink1URL: http://www.infineon.com/; ComponentLink2Description: Datasheet; ComponentLink2URL: http://www.infineon.com/dgdl/IDB23E60_rev2_2G.pdf?folderId=db3a304412b407950112b438cc146ba1&fileId=db3a304412b407950112b438cc9e6ba2; ComponentLink3Description: Package Specification; ComponentLink3URL: http://www.infineon.com/dgdl/SPB80P06P+G_Rev+1.6_.pdf?folderId=db3a304412b407950112b408e8c90004&fileId=db3a304412b407950112b42add964408
footprint INF-PG-TO263-3-2_A_N (DPAK, 3-Leads, Body 10.1x8.98mm, Pitch 2.54mm, IPC Medium Density)
footprint INF-PG-TO263-3-2_A_L (DPAK, 3-Leads, Body 10.1x8.98mm, Pitch 2.54mm, IPC High Density)
footprint INF-PG-TO263-3-2_A_M (DPAK, 3-Leads, Body 10.1x8.98mm, Pitch 2.54mm, IPC Low Density)
pins: 1 NC, 2 K, 3 A

## IDB30E60
designator D?
Fast Switching EmCon Diode, -55 to 175 degC, PG-TO263-3, Reel, Green; Manufacturer: Infineon; PartNumber: IDB30E60; Green: TRUE; IF (max): 52.3 A; IF (typ): 30 A; IF,SM (max): 117 A; IR (max): 50 uA; Irrm (typ): 19 A; Ptot (max): 142.9 W; Qrr (typ): 1,100 nC; RthJC (max): 15 K/W; Trr (typ): 126 ns; VF (typ): 1.5 V; DatasheetVersion: Rev. 2.2; PackageVersion: Rev. 01, 08/2007; PackageReference: PG-TO263-3-2; PackageDescription: 3-Pin Plastic (Green) Transistor Single Outline Package, 10.1 x 8.98 mm Body, 2.54 mm Pitch; Supplier 1: Mouser; Supplier Part Number 1: 726-IDB30E60; Supplier 2: Digi-Key; Supplier Part Number 2: IDB30E60-ND; Halogen-free: TRUE; Packing: Reel; Mounting Technology: Surface Mount; ComponentLink1Description: Manufacturer URL; ComponentLink1URL: http://www.infineon.com/; ComponentLink2Description: Datasheet; ComponentLink2URL: http://www.infineon.com/dgdl/IDB30E60_rev2_2G.pdf?folderId=db3a304412b407950112b438d1176bab&fileId=db3a304412b407950112b438d1a06bac; ComponentLink3Description: Package Specification; ComponentLink3URL: http://www.infineon.com/dgdl/SPB80P06P+G_Rev+1.6_.pdf?folderId=db3a304412b407950112b408e8c90004&fileId=db3a304412b407950112b42add964408
footprint INF-PG-TO263-3-2_A_N (DPAK, 3-Leads, Body 10.1x8.98mm, Pitch 2.54mm, IPC Medium Density)
footprint INF-PG-TO263-3-2_A_L (DPAK, 3-Leads, Body 10.1x8.98mm, Pitch 2.54mm, IPC High Density)
footprint INF-PG-TO263-3-2_A_M (DPAK, 3-Leads, Body 10.1x8.98mm, Pitch 2.54mm, IPC Low Density)
pins: 1 NC, 2 K, 3 A

## IDB30E120
designator D?
Fast Switching EmCon Diode, -55 to 150 degC, PG-TO263-3-2, Reel, Green; Manufacturer: Infineon; PartNumber: IDB30E120; Green: TRUE; IF (max): 50 A; IF (typ): 30 A; IF,SM (max): 102 A; IR (max): 100 uA; Irrm (typ): 23.7 A; Ptot (max): 138 W; Qrr (typ): 2,630 nC; RthJC (max): 0.9 K/W; Trr (typ): 243 ns; VF (typ): 1.65 V; DatasheetVersion: Rev. 2.2; PackageVersion: Rev. 01, 08/2007; PackageReference: PG-TO263-3-2; PackageDescription: 3-Pin Plastic (Green) Transistor Single Outline Package, 10.1 x 8.98 mm Body, 2.54 mm Pitch; Supplier 1: Mouser; Supplier Part Number 1: 726-IDB30E120; Supplier 2: Newark; Supplier Part Number 2: 47W3447; Supplier 3: Farnell; Supplier Part Number 3: 2212799; Supplier 4: Digi-Key; Supplier Part Number 4: IDB30E120-ND; Halogen-free: TRUE; Packing: Reel; Mounting Technology: Surface Mount; ComponentLink1Description: Manufacturer URL; ComponentLink1URL: http://www.infineon.com/; ComponentLink2Description: Datasheet; ComponentLink2URL: http://www.infineon.com/dgdl/IDB30E120_rev2_2G.pdf?folderId=db3a304412b407950112b43712366746&fileId=db3a304412b407950112b43712b86747; ComponentLink3Description: Package Specification; ComponentLink3URL: http://www.infineon.com/dgdl/SPB80P06P+G_Rev+1.6_.pdf?folderId=db3a304412b407950112b408e8c90004&fileId=db3a304412b407950112b42add964408
footprint INF-PG-TO263-3-2_A_N (DPAK, 3-Leads, Body 10.1x8.98mm, Pitch 2.54mm, IPC Medium Density)
footprint INF-PG-TO263-3-2_A_L (DPAK, 3-Leads, Body 10.1x8.98mm, Pitch 2.54mm, IPC High Density)
footprint INF-PG-TO263-3-2_A_M (DPAK, 3-Leads, Body 10.1x8.98mm, Pitch 2.54mm, IPC Low Density)
pins: 1 NC, 2 K, 3 A

## IDB45E60
designator D?
Fast Switching EmCon Diode, -55 to 175 degC, PG-TO263-3-2, Reel, Green; Manufacturer: Infineon; PartNumber: IDB45E60; Green: TRUE; IF (max): 71 A; IF (typ): 45 A; IF,SM (max): 162 A; IR (max): 50 uA; Irrm (typ): 23 A; Ptot (max): 187 W; Qrr (typ): 1,400 nC; RthJC (max): 0.8 K/W; Trr (typ): 140 ns; VF (typ): 1.5 V; DatasheetVersion: Rev. 2.2; PackageVersion: Rev. 01, 08/2007; PackageReference: PG-TO263-3-2; PackageDescription: 3-Pin Plastic (Green) Transistor Single Outline Package, 10.1 x 8.98 mm Body, 2.54 mm Pitch; Supplier 1: Mouser; Supplier Part Number 1: 726-IDB45E60; Supplier 2: Digi-Key; Supplier Part Number 2: IDB45E60-ND; Halogen-free: TRUE; Packing: Reel; Mounting Technology: Surface Mount; ComponentLink1Description: Manufacturer URL; ComponentLink1URL: http://www.infineon.com/; ComponentLink2Description: Datasheet; ComponentLink2URL: http://www.infineon.com/dgdl/IDB45E60_rev2_2G.pdf?folderId=db3a304412b407950112b438d6086bb5&fileId=db3a304412b407950112b438d6916bb6; ComponentLink3Description: Package Specification; ComponentLink3URL: http://www.infineon.com/dgdl/SPB80P06P+G_Rev+1.6_.pdf?folderId=db3a304412b407950112b408e8c90004&fileId=db3a304412b407950112b42add964408
footprint INF-PG-TO263-3-2_A_N (DPAK, 3-Leads, Body 10.1x8.98mm, Pitch 2.54mm, IPC Medium Density)
footprint INF-PG-TO263-3-2_A_L (DPAK, 3-Leads, Body 10.1x8.98mm, Pitch 2.54mm, IPC High Density)
footprint INF-PG-TO263-3-2_A_M (DPAK, 3-Leads, Body 10.1x8.98mm, Pitch 2.54mm, IPC Low Density)
pins: 1 NC, 2 K, 3 A

## IDD03E60
designator D?
Fast Switching EmCon Diode, -55 to 175 degC, PG-TO252-3-1, Reel, Green; Manufacturer: Infineon; PartNumber: IDD03E60; Green: TRUE; IF (max): 7.3 A; IF (typ): 3 A; IF,SM (max): 16 A; IR (max): 50 uA; Irrm (typ): 3.8 A; Ptot (max): 23 W; Qrr (typ): 118 nC; RthJC (max): 6.5 K/W; Trr (typ): 62 ns; VF (typ): 1.5 V; DatasheetVersion: Rev. 2.2; PackageVersion: Rev. 2.2, 04/2007; PackageReference: PG-TO252-3-1_A; PackageDescription: 3-Pin Plastic (Green) Transistor Single Outline Package, Body 6.565 x 6.1 mm, Pitch 2.28 mm; Supplier 1: Mouser; Supplier Part Number 1: 726-IDD03E60; Supplier 2: Digi-Key; Supplier Part Number 2: IDD03E60-ND; Packing: Reel; Mounting Technology: Surface Mount; ComponentLink1Description: Manufacturer URL; ComponentLink1URL: http://www.infineon.com/; ComponentLink2Description: Datasheet; ComponentLink2URL: http://www.infineon.com/dgdl/IDD03E60Grev2_2.pdf?folderId=db3a304412b407950112b438b4176b74&fileId=db3a304412b407950112b438b49f6b75; ComponentLink3Description: Package Specification; ComponentLink3URL: http://www.infineon.com/dgdl/IDD03E60Grev2_2.pdf?folderId=db3a304412b407950112b438b4176b74&fileId=db3a304412b407950112b438b49f6b75
footprint INF-PG-TO252-3-1_A_N (DPAK, 3-Leads, Body 6.565x6.1mm, Pitch 2.28mm, IPC Medium Density)
footprint INF-PG-TO252-3-1_A_L (DPAK, 3-Leads, Body 6.565x6.1mm, Pitch 2.28mm, IPC High Density)
footprint INF-PG-TO252-3-1_A_M (DPAK, 3-Leads, Body 6.565x6.1mm, Pitch 2.28mm, IPC Low Density)
pins: 1 NC, 2 K, 3 A

## IDD06E60
designator D?
Fast Switching EmCon Diode, -55 to 175 degC, PG-TO252-3-1, Reel, Green; Manufacturer: Infineon; PartNumber: IDD06E60; Green: TRUE; IF (max): 14.7 A; IF (typ): 6 A; IF,SM (max): 29 A; IR (max): 50 uA; Irrm (typ): 6.5 A; Ptot (max): 46.8 W; Qrr (typ): 240 nC; RthJC (max): 3.2 K/W; Trr (typ): 70 ns; VF (typ): 1.5 V; DatasheetVersion: Rev. 2.2; PackageVersion: Rev. 2.2, 04/2007; PackageReference: PG-TO252-3-1_A; PackageDescription: 3-Pin Plastic (Green) Transistor Single Outline Package, Body 6.565 x 6.1 mm, Pitch 2.28 mm; Supplier 1: Mouser; Supplier Part Number 1: 726-IDD06E60; Supplier 2: Digi-Key; Supplier Part Number 2: IDD06E60-ND; Packing: Reel; Mounting Technology: Surface Mount; ComponentLink1Description: Manufacturer URL; ComponentLink1URL: http://www.infineon.com/; ComponentLink2Description: Datasheet; ComponentLink2URL: http://www.infineon.com/dgdl/IDD06e60Grev2_2.pdf?folderId=db3a304412b407950112b408e8c90004&fileId=db3a304412b407950112b438e5fa6bc6; ComponentLink3Description: Package Specification; ComponentLink3URL: http://www.infineon.com/dgdl/IDD03E60Grev2_2.pdf?folderId=db3a304412b407950112b438b4176b74&fileId=db3a304412b407950112b438b49f6b75
footprint INF-PG-TO252-3-1_A_N (DPAK, 3-Leads, Body 6.565x6.1mm, Pitch 2.28mm, IPC Medium Density)
footprint INF-PG-TO252-3-1_A_L (DPAK, 3-Leads, Body 6.565x6.1mm, Pitch 2.28mm, IPC High Density)
footprint INF-PG-TO252-3-1_A_M (DPAK, 3-Leads, Body 6.565x6.1mm, Pitch 2.28mm, IPC Low Density)
pins: 1 NC, 2 K, 3 A